# EAGLE library part A4985SETTR-T (library Allegro_By_element14_Batch_1)
DMOS Microstepping Driver with Translator and Overcurrent Protection
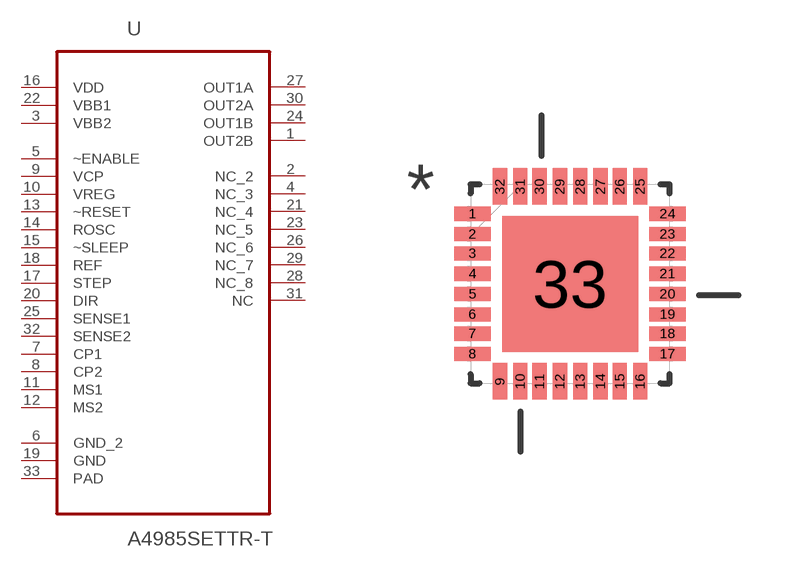
[diagram p13: symbol with the pads of QFN50P500X500X100-33N; footprint QFN50P500X500X100-33N]

Designator prefix U

## A4985SETTR-T (MPN: A4985SETTR-T; OC_FARNELL: -; OC_NEWARK: 67R9673; PACKAGE: QFN-32; SUPPLIER: Allegro)  [QFN50P500X500X100-33N]
1  OUT2B  out
2  NC_2  nc
3  VBB2  pwr
4  NC_3  nc
5  ~ENABLE  in
6  GND_2  pas
7  CP1  pas
8  CP2  pas
9  VCP  pas
10  VREG  pas
11  MS1  in
12  MS2  in
13  ~RESET  in
14  ROSC  in
15  ~SLEEP  in
16  VDD  pwr
17  STEP  in
18  REF  in
19  GND  pas
20  DIR  in
21  NC_4  nc
22  VBB1  pwr
23  NC_5  nc
24  OUT1B  out
25  SENSE1  in
26  NC_6  nc
27  OUT1A  out
28  NC_8  nc
29  NC_7  nc
30  OUT2A  out
31  NC  nc
32  SENSE2  in
33  PAD  pas

## Footprint QFN50P500X500X100-33N (pad centres in mm)
smd 0.914 x 0.356: 1 -2.438,1.753; 2 -2.438,1.245; 3 -2.438,0.762; 4 -2.438,0.254; 5 -2.438,-0.254; 6 -2.438,-0.762; 7 -2.438,-1.245; 8 -2.438,-1.753; 17 2.438,-1.753; 18 2.438,-1.245; 19 2.438,-0.762; 20 2.438,-0.254; 21 2.438,0.254; 22 2.438,0.762; 23 2.438,1.245; 24 2.438,1.753
smd 0.356 x 0.914: 9 -1.753,-2.438; 10 -1.245,-2.438; 11 -0.762,-2.438; 12 -0.254,-2.438; 13 0.254,-2.438; 14 0.762,-2.438; 15 1.245,-2.438; 16 1.753,-2.438; 25 1.753,2.438; 26 1.245,2.438; 27 0.762,2.438; 28 0.254,2.438; 29 -0.254,2.438; 30 -0.762,2.438; 31 -1.245,2.438; 32 -1.753,2.438
smd 3.404 x 3.404: 33 0,0